# EAGLE library part 734-568 (library con-wago_3.81mm)
Serie 734, Federleiste mit abgewinkelten Einlötstiften / Series 734, Female connector with angled solder pins Polzahl / Pole No.: 8 Bemessungsspannung / Rated Voltage: 160 V Nennstrom / Nominal Current: 10 A Lötstiftlänge: / Solder Pin Length: 3.8 mm Farbe / Color: orange / orange Stand: 01.01.2012. Die jeweils aktuellen Daten zu diesem Artikel finden Sie in unserem Produktkatalog, den Sie unter www.wago.com einsehen können. As of: 01/01/2012. Please find the newest data for this article in our product catalogue, which can be viewed under www.wago.com.
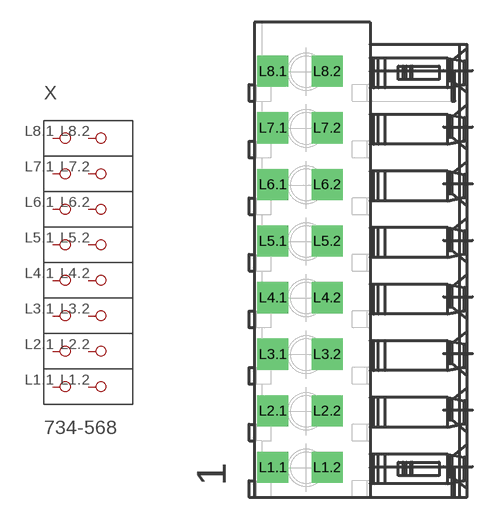
[diagram p52: symbol with the pads of P-734-568; footprint P-734-568]

Designator prefix X

## 734-568  [P-734-568]
L1.1  P1.1
L1.2  P1.2
L2.1  P2.1
L2.2  P2.2
L3.1  P3.1
L3.2  P3.2
L4.1  P4.1
L4.2  P4.2
L5.1  P5.1
L5.2  P5.2
L6.1  P6.1
L6.2  P6.2
L7.1  P7.1
L7.2  P7.2
L8.1  P8.1
L8.2  P8.2

## Footprint P-734-568 (pad centres in mm)
drill 1.4 square: L1.1 -5.909,-13.98; L1.2 -2.259,-13.98; L2.1 -5.909,-10.17; L2.2 -2.259,-10.17; L3.1 -5.909,-6.36; L3.2 -2.259,-6.36; L4.1 -5.909,-2.55; L4.2 -2.259,-2.55; L5.1 -5.909,1.26; L5.2 -2.259,1.26; L6.1 -5.909,5.07; L6.2 -2.259,5.07; L7.1 -5.909,8.88; L7.2 -2.259,8.88; L8.1 -5.909,12.69; L8.2 -2.259,12.69